# Altium footprint library auxcomp.PcbLib: 11 footprints
Each footprint in its own frame and in the unit in brackets; x right, y up, seen from the top. Pads: shape width x height; smd on the part's side, far side on the other; paste and mask are expansions set on the pad; w line width, h text height; cw(c..) or ccw(c..) is an arc to the next point about the centre after c.
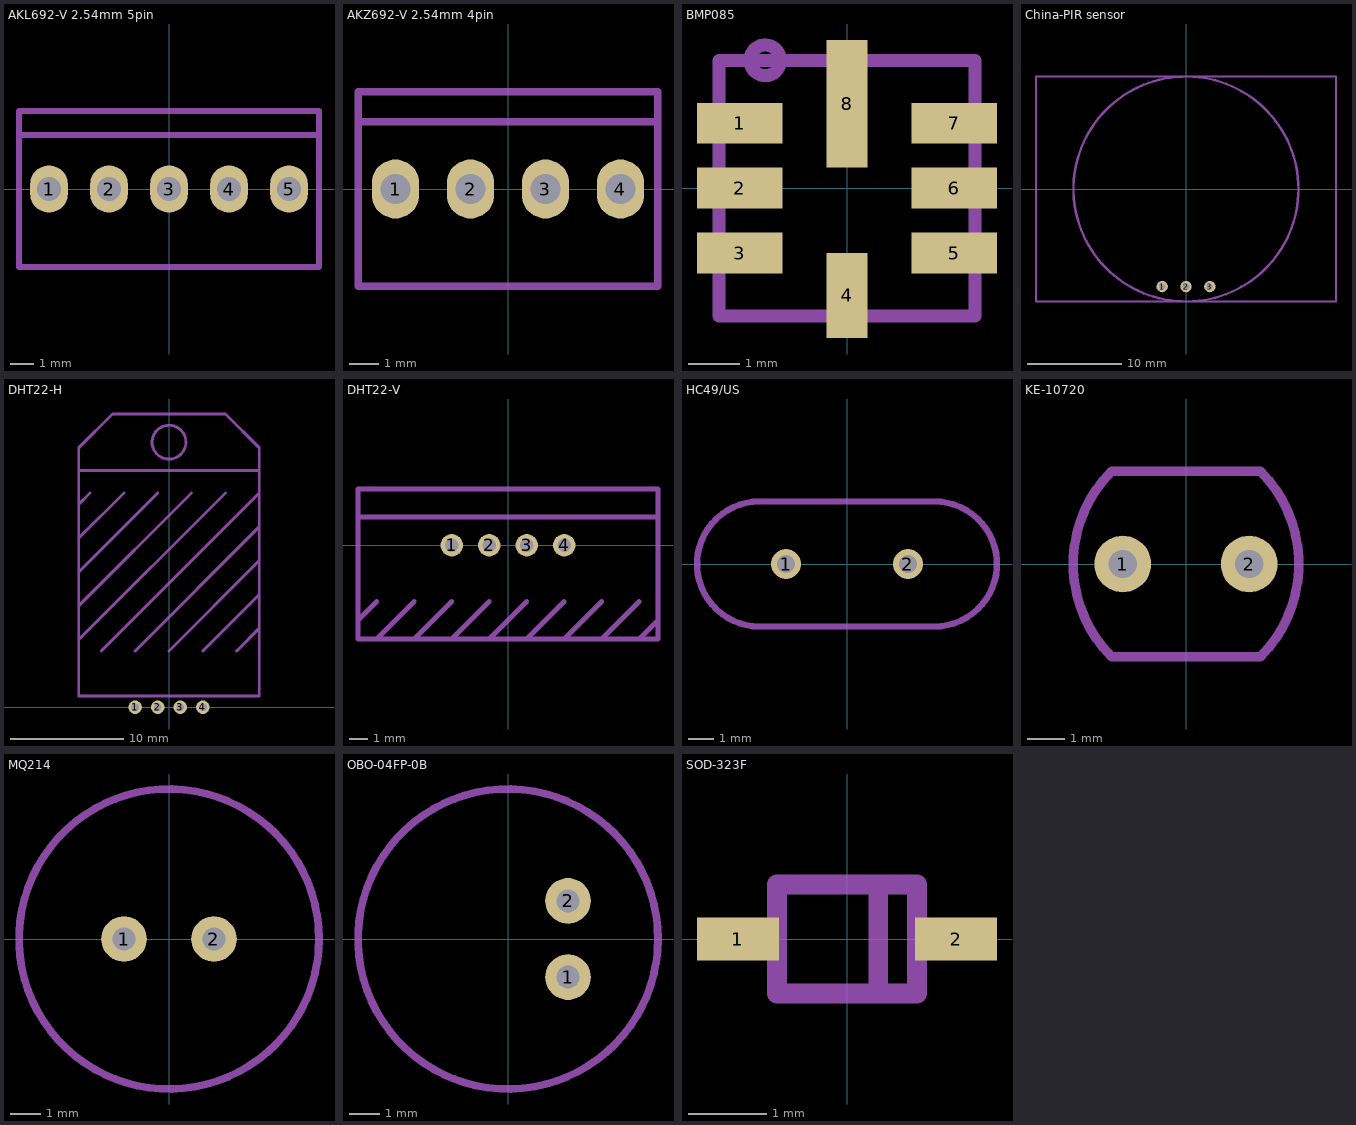
[diagram p0: the footprints below, top view; thin cyan lines are the x and y axes]

## AKL692-V 2.54mm 5pin [mm]
pads (5):
  oval 1.6x2 hole 1: 1(-5.08,0) 2(-2.54,0) 3(0,0) 4(2.54,0) 5(5.08,0)
Mechanical 1:
  lines w0.254: -6.35,2.286 6.35,2.286 ; -6.35,-3.302 6.35,-3.302 6.35,3.302 -6.35,3.302 -6.35,-3.302

## AKZ692-V 2.54mm 4pin [mm]
height 8.5
pads (4):
  oval 1.6x2 hole 1: 1(-3.81,0) 2(-1.27,0) 3(1.27,0) 4(3.81,0)
Mechanical 1:
  lines w0.254: -5.08,2.286 5.08,2.286 ; -5.08,-3.302 5.08,-3.302 5.08,3.302 -5.08,3.302 -5.08,-3.302

## BMP085 [mm]
height 1.2
pads (8):
  rect 1.67x0.8 smd: 1(-2.1,1.27) 2(-2.1,0) 3(-2.1,-1.27) 5(2.1,-1.27) 6(2.1,0) 7(2.1,1.27)
  rect 0.8x1.67 smd: 4(0,-2.1)
  rect 0.8x2.5 smd: 8(0,1.65)
Mechanical 1:
  circle w0.254: c-1.6,2.5 r0.3
  lines w0.254: -2.5,-2.5 -2.5,2.5 2.5,2.5 2.5,-2.5 -2.5,-2.5

## China-PIR sensor [mm]
height 18
pads (3):
  round 1.2 hole 0.7: 1(-2.54,-10.414) 2(0,-10.414) 3(2.54,-10.414)
Mechanical 1:
  circle w0.254: c0,0 r12
  lines w0.254: -16,-12 16,-12 16,12 -16,12 -16,-12

## DHT22-H [mm]
height 7.7
pads (4):
  round 1.2 hole 0.7: 1(-3,0) 2(-1,0) 3(1,0) 4(3,0)
Mechanical 1:
  circle w0.254: c0,23.5 r1.5
  lines w0.254: -8,6 5,19 ; -8,9 2,19 ; -8,12 -1,19 ; -8,15 -4,19 ; -8,18 -7,19 ; -6,5 8,19 ; 0,5 8,13 ; 3,5 8,10 ; 8,7 6,5 ; 8,16 -3,5 ; -8,21 -8,23 -5,26 5,26 8,23 8,21 ; -8,21 -8,1 8,1 8,11 8,21 ; -8,21 8,21 ; -7,19 -7,19 ; -3,5 -3,5 ; -1,19 -1,19 ; 6,5 6,5

## DHT22-V [mm]
height 25.1
pads (4):
  round 1.2 hole 0.7: 1(-3,0) 2(-1,0) 3(1,0) 4(3,0)
Mechanical 1:
  lines w0.254: -8,1.5 8,1.5 ; -7,-5 -5,-3 ; -7,-3 -8,-4 ; -5,-5 -3,-3 ; -1,-3 -3,-5 ; 1,-3 -1,-5 ; 3,-5 5,-3 ; 3,-3 1,-5 ; 5,-5 7,-3 ; 8,-4 7,-5 ; -8,-4 -8,-4 ; -8,-4 -8,3 ; -8,3 -8,-5 8,-5 8,3 -8,3 ; -3,-5 -3,-5 ; -1,-5 -1,-5 ; 1,-5 1,-5 ; 7,-5 7,-5

## HC49/US [mm] "Standing, THT low-profile crystal"
height 3.68
pads (2):
  round 1.2 hole 0.7: 1(-2.44,0) 2(2.44,0)
Mechanical 1:
  lines w0.254: -3.5,-2.5 cw(c-3.5,0) -3.5,2.5 3.5,2.5 cw(c3.5,0) 3.5,-2.5 -3.5,-2.5

## KE-10720 [mil]
pads (2):
  round 60 hole 30: 1(-66.93,0) 2(66.93,0)
Mechanical 1:
  lines w10: -78.74,-98.43 cw(c19.68,0) -78.74,98.43 78.74,98.43 cw(c-19.68,0) 78.74,-98.43 -78.74,-98.43

## MQ214 [mil]
height 314.96
pads (2):
  round 60 hole 30: 1(-59.06,0) 2(59.06,0)
Mechanical 1:
  circle w10: c0,0 r196.85

## OBO-04FP-0B [mil]
pads (2):
  round 60 hole 30: 1(78.74,-50) 2(78.74,50)
Mechanical 1:
  circle w10: c0,0 r196.85

## SOD-323F [mm]
height 1
pads (2):
  rect 1.05x0.55 smd: 1(-1.4,0) 2(1.4,0)
Mechanical 1:
  lines w0.254: 0.4,-0.7 0.4,0.7 ; -0.9,-0.7 0.9,-0.7 0.9,0.7 -0.9,0.7 -0.9,-0.7